# Altium footprint library 28Pins_Project_V111.PcbLib: 28 footprints (part 2 of 2)
Each footprint in its own frame and in the unit in brackets; x right, y up, seen from the top. Pads: shape width x height; smd on the part's side, far side on the other; paste and mask are expansions set on the pad; w line width, h text height; cw(c..) or ccw(c..) is an arc to the next point about the centre after c.
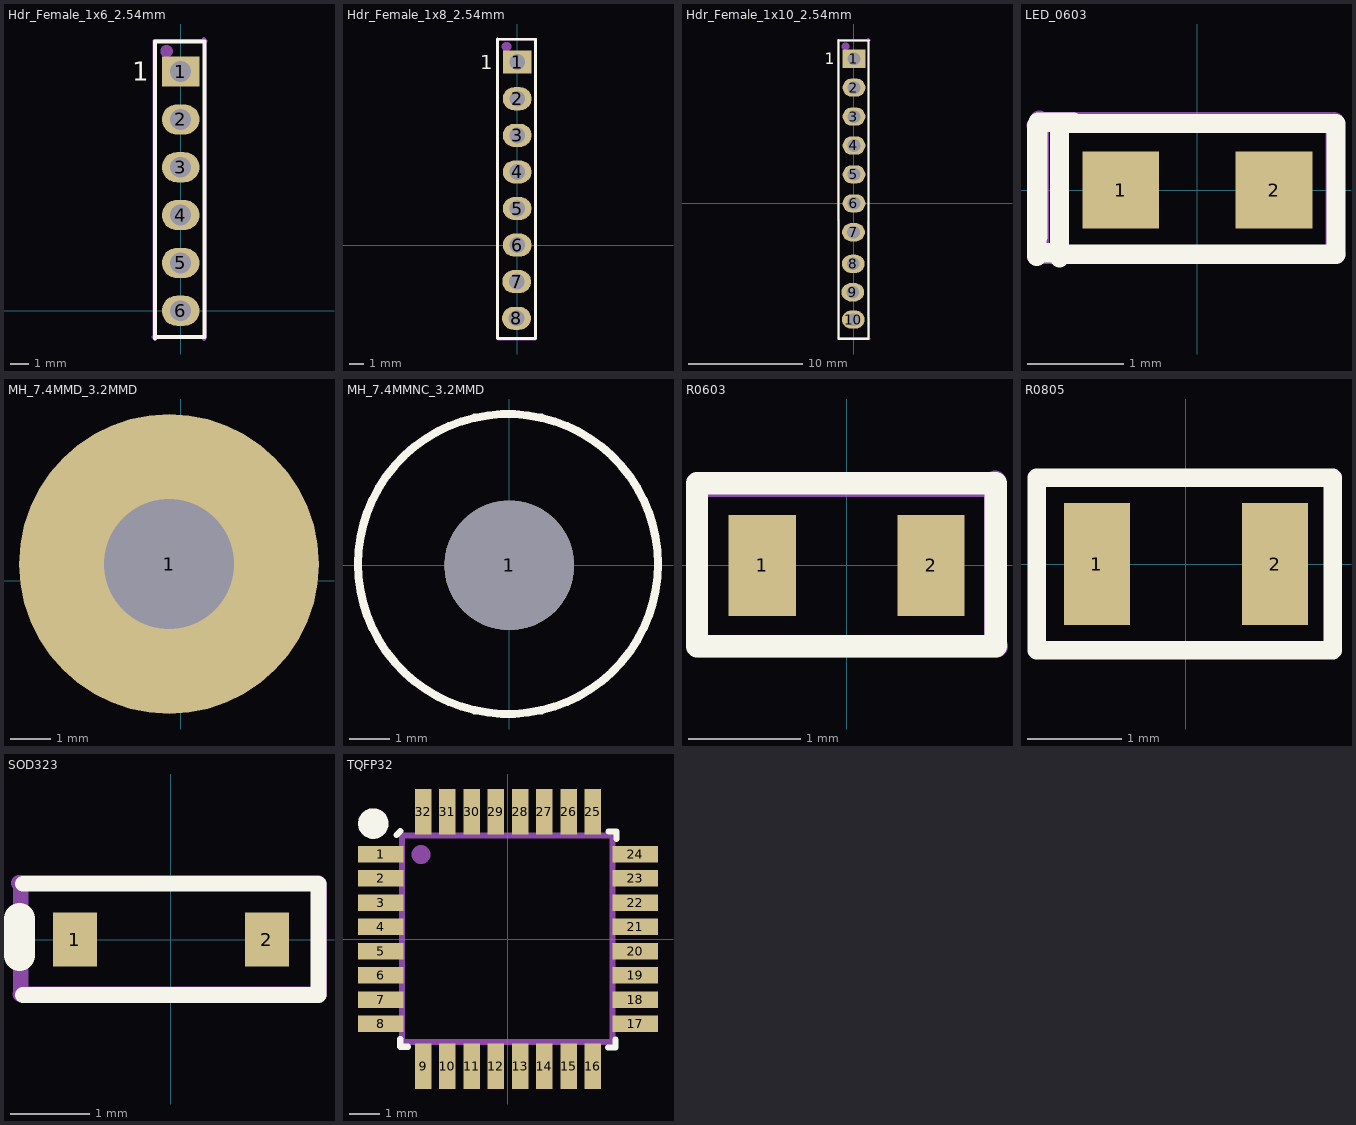
[diagram p1: the footprints below, top view; thin cyan lines are the x and y axes]

## Hdr_Female_1x6_2.54mm [mm]
pads (6):
  rect 2x1.6 hole 1.1: 1(0,12.7)
  oval 2x1.6 hole 1.1: 2(0,10.16) 3(0,7.62) 4(0,5.08) 5(0,2.54) 6(0,0)
Top Overlay:
  lines w0.2: -1.364,14.308 -1.364,-1.491 -1.27,-1.397 1.27,-1.397 1.27,14.287 ; -1.315,14.292 1.284,14.292
  text "1" at -2.564,12.212 h1
Mechanical 29:
  circle w0.5: c-0.744,13.778 r0.085
  lines w0.2: -1.447,-1.396 1.186,-1.396 ; -1.383,-1.428 -1.383,14.321 1.332,14.321 1.223,14.429 ; 1.236,-1.5 1.281,-1.456 1.281,14.252
  text ".Designator" at 0.584,1.579 h1.52
3D body "m20-7820646_asm.stp": height 8.51, standoff -2.99, extent -1.263,-1.42 1.237,14.22

## Hdr_Female_1x8_2.54mm [mm]
pads (8):
  rect 2x1.6 hole 1.1: 1(0,12.7)
  oval 2x1.6 hole 1.1: 2(0,10.16) 3(0,7.62) 4(0,5.08) 5(0,2.54) 6(0,0) 7(-0.036,-2.535) 8(-0.053,-5.083)
Top Overlay:
  lines w0.2: -1.364,14.308 -1.364,-6.492 1.27,-6.492 1.27,14.287 ; -1.315,14.292 1.284,14.292
  text "1" at -2.564,12.212 h1
Mechanical 29:
  circle w0.5: c-0.744,13.778 r0.085
  lines w0.2: -1.389,-6.054 -1.389,-6.449 -1.319,-6.519 1.277,-6.519 1.259,-6.502 1.259,-5.86 ; -1.37,-6.068 -1.37,14.288 ; -1.338,14.293 1.258,14.293 1.269,14.282 1.269,-6.066
  text ".Designator" at 0.19,1.956 h1.52
3D body "m20-7820842_asm.stp": height 8.31, standoff -3.19, extent -1.343,-6.391 1.157,14.329

## Hdr_Female_1x10_2.54mm [mm]
pads (10):
  rect 2x1.6 hole 1.1: 1(0,12.7)
  oval 2x1.6 hole 1.1: 2(0,10.16) 3(0,7.62) 4(0,5.08) 5(0,2.54) 6(0,0) 7(-0.042,-2.537) 8(-0.059,-5.308) 9(-0.103,-7.799) 10(-0.059,-10.203)
Top Overlay:
  lines w0.2: -1.364,14.308 -1.364,-11.873 1.27,-11.873 1.27,14.287 ; -1.315,14.292 1.284,14.292
  text "1" at -2.564,12.212 h1
Mechanical 29:
  circle w0.5: c-0.744,13.778 r0.085
  lines w0.2: -1.383,-1.428 -1.383,14.321 1.332,14.321 1.223,14.429 ; -1.339,-1.49 -1.339,-9.982 -1.339,-11.907 -1.316,-11.884 1.336,-11.884 1.285,-11.833 1.285,-10.026 ; 1.25,-10.049 1.25,-1.574 ; 1.281,-1.456 1.281,14.252
  text ".Designator" at 0.584,1.579 h1.52
3D body "m20-7821046_asm.stp": height 8.31, standoff -3.19, extent -1.238,-11.696 1.262,14.104

## LED_0603 [mm]
pads (2):
  rect 0.8x0.8 smd: 1(-0.8,0) 2(0.8,0)
Top Overlay:
  lines w0.2: -1.675,-0.691 -1.675,0.674 ; -1.663,-0.488 -1.663,0.707 -1.294,0.707 ; -1.649,-0.653 -1.439,-0.653 ; -1.439,-0.707 -1.439,0.658 ; -1.439,-0.67 1.445,-0.67 1.445,0.695 -1.427,0.695
Mechanical 29:
  lines w0.2: -1.683,0.673 -1.641,0.716 1.38,0.716 ; -1.649,0.729 -1.649,-0.674 -1.646,-0.672 1.446,-0.672 1.436,-0.661 1.436,0.705 1.425,0.716
  text ".Des" at -0.974,-0.249 h0.6
3D body "User Library-LED SMD 0603 super red.step": height 0.65, standoff 0, extent -0.969,-0.4 0.731,0.4

## MH_7.4MMD_3.2MMD [mm]
pads (1):
  round 7.4 hole 3.2: 1(-0.294,0.418)

## MH_7.4MMNC_3.2MMD [mm]
pads (1):
  round 3.2 hole 3.2 unplated: 1(0,0)
Top Overlay:
  circle w0.2: c-0.034,0.034 r3.7

## PCBComponent_1 [mm]

## PCBComponent_1 - duplicate [mm]

## R0603 [mm]
pads (2):
  rect 0.6x0.9 smd: 1(-0.75,0) 2(0.75,0)
Top Overlay:
  lines w0.2: -1.332,-0.72 1.327,-0.72 1.327,0.73 -1.332,0.73 -1.332,-0.72
Mechanical 29:
  lines w0.2: -1.332,0.71 -1.332,-0.685 -1.296,-0.72 1.337,-0.72 1.322,-0.705 1.322,0.745 1.287,0.71 -1.282,0.71
  text ".Des" at -0.048,-0.023 h0.5
3D body "R0603.step": height 0.78, standoff -0.02, extent -0.622,-0.414 0.978,0.426

## R0805 [mm]
pads (2):
  rect 0.7x1.3 smd: 1(-0.95,0) 2(0.95,0)
Top Overlay:
  lines w0.2: -1.592,-0.919 -1.592,0.923 1.566,0.923 1.566,-0.919 -1.592,-0.919
3D body "User Library-Chip Resistor2.step": height 0.71, standoff 0.01, extent -1.017,-0.571 0.983,0.629

## SOD323 [mil]
pads (2):
  rect 22x27 smd: 1(-48,0) 2(48,0)
Top Overlay:
  lines w7.87: -73.98,-27.68 73.8,-27.68 73.8,27.88 -73.98,27.88
  lines w15.75: -75.79,-7.8 -75.79,10.37
Mechanical 29:
  lines w7.87: -75.95,28.25 73.3,28.25 74,27.55 74,-27.35 -75.25,-27.35 -75.12,-27.22 -75.12,27.56
  text ".Des" at -69.44,43.82 h39.37
3D body "User Library-SOD323.step": height 35.43, standoff -3.54, extent -49.21,-23.87 49.22,25.34

## TQFP32 [mm]
pads (32):
  rect 1.5x0.55 smd mask+0.06: 1(-4.2,2.8) 2(-4.2,2) 3(-4.2,1.2) 4(-4.2,0.4) 5(-4.2,-0.4) 6(-4.2,-1.2) 7(-4.2,-2) 8(-4.2,-2.8) 17(4.2,-2.8) 18(4.2,-2) 19(4.2,-1.2) 20(4.2,-0.4) 21(4.2,0.4) 22(4.2,1.2) 23(4.2,2) 24(4.2,2.8)
  rect 0.55x1.5 smd mask+0.06: 9(-2.8,-4.2) 10(-2,-4.2) 11(-1.2,-4.2) 12(-0.4,-4.2) 13(0.4,-4.2) 14(1.2,-4.2) 15(2,-4.2) 16(2.8,-4.2) 25(2.8,4.2) 26(2,4.2) 27(1.2,4.2) 28(0.4,4.2) 29(-0.4,4.2) 30(-1.2,4.2) 31(-2,4.2) 32(-2.8,4.2)
Top Overlay:
  circle w0.5: c-4.445,3.81 r0.254
  lines w0.2: -3.683,3.429 -3.556,3.556 ; -3.556,-3.302 -3.556,-3.556 -3.302,-3.556 ; 3.297,-3.577 3.551,-3.577 3.551,-3.323 ; 3.323,3.551 3.577,3.551 3.577,3.297
Mechanical 29:
  circle w0.5: c-2.87,2.786 r0.061
  lines w0.2: -3.492,-3.397 -3.492,3.373 -3.45,3.416 3.533,3.416 3.448,3.331 3.448,-3.369 3.42,-3.397 -3.492,-3.397
  text ".Designator" at -2.879,0.904 h0.5
3D body "User Library-tqfp32.step": height 1.2, standoff 0, extent -4.572,-4.599 4.627,4.599